# Altium schematic symbol library Motorpad.SchLib: 1 symbol
Pins are listed as number, name and electrical type; pins without a type are passive.

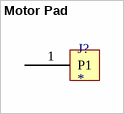
[diagram p0: symbol Motor Pad]

## Motor Pad
designator J?
Motor pad
footprint motorPads
pins: 1 P1